# EAGLE library part SH7-10 (library con-rib)
RIBBON CABLE CONNECTOR Flachstecker / Faston
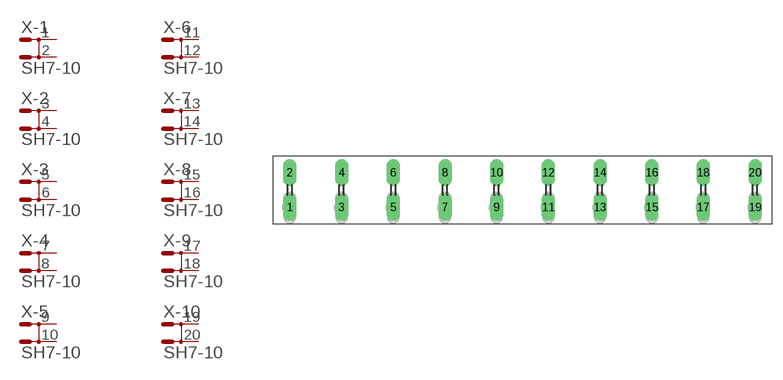
[diagram p8: symbol with the pads of SH7-10; footprint SH7-10]

Designator prefix X; gates -1=MD -2=MD -3=MD -4=MD -5=MD -6=MD -7=MD -8=MD -9=MD -10=MD

## SH7-10 (OC_FARNELL: unknown; OC_NEWARK: unknown)  [SH7-10]
1  -1:1  pas
2  -1:2  pas
3  -2:1  pas
4  -2:2  pas
5  -3:1  pas
6  -3:2  pas
7  -4:1  pas
8  -4:2  pas
9  -5:1  pas
10  -5:2  pas
11  -6:1  pas
12  -6:2  pas
13  -7:1  pas
14  -7:2  pas
15  -8:1  pas
16  -8:2  pas
17  -9:1  pas
18  -9:2  pas
19  -10:1  pas
20  -10:2  pas

## Footprint SH7-10 (pad centres in mm)
RIBBON CABLE CONNECTOR Flachstecker / Faston
drill 1.321 long: 1 -33.757,-2.515; 2 -33.757,2.515; 3 -26.238,-2.515; 4 -26.238,2.515; 5 -18.745,-2.515; 6 -18.745,2.515; 7 -11.227,-2.515; 8 -11.227,2.515; 9 -3.759,-2.515; 10 -3.759,2.515; 11 3.759,-2.515; 12 3.759,2.515; 13 11.252,-2.515; 14 11.252,2.515; 15 18.771,-2.515; 16 18.771,2.515; 17 26.238,-2.515; 18 26.238,2.515; 19 33.757,-2.515; 20 33.757,2.515